# EAGLE library part DRV8262DDWR (library DRV8262DDWR)
Motor / Motion / Ignition Controllers & Drivers 70-V single or dual H-bridge motor driver with integrated current sense and regulation Source: Datasheet <https://www.arrow.com/en/products/drv8262ddwr/texas-instruments?region=nac>
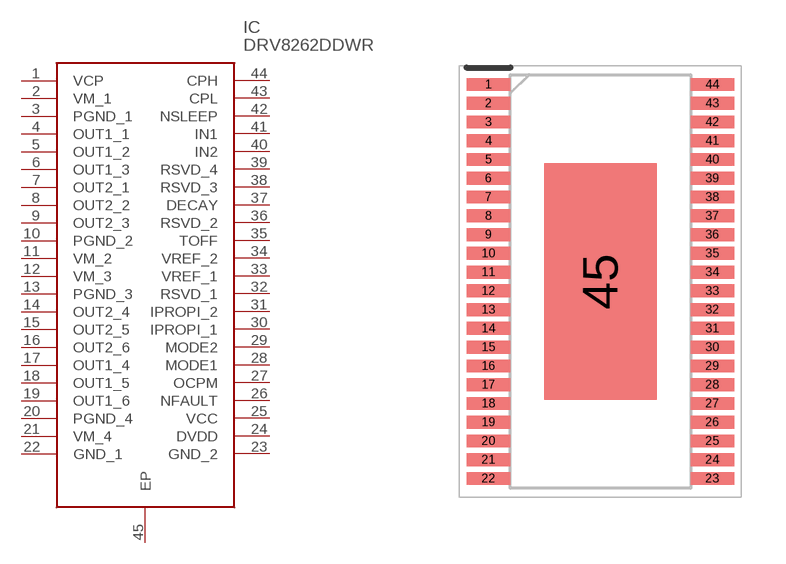
[diagram p0: symbol with the pads of SOP64P810X120-45N; footprint SOP64P810X120-45N]

Designator prefix IC

## DRV8262DDWR (Description: Motor / Motion / Ignition Controllers & Drivers 70-V single or dual H-bridge motor driver with integrated current sense and regulation; Height: 1.2mm; Manufacturer_Name: Texas Instruments; Manufacturer_Part_Number: DRV8262DDWR; Mouser_Part_Number: 595-DRV8262DDWR; Mouser_Price-Stock: https://www.mouser.co.uk/ProductDetail/Texas-Instruments/DRV8262DDWR?qs=1Kr7Jg1SGW8MeFim1i6uiA%3D%3D)  [SOP64P810X120-45N]
1  VCP
2  VM_1
3  PGND_1
4  OUT1_1
5  OUT1_2
6  OUT1_3
7  OUT2_1
8  OUT2_2
9  OUT2_3
10  PGND_2
11  VM_2
12  VM_3
13  PGND_3
14  OUT2_4
15  OUT2_5
16  OUT2_6
17  OUT1_4
18  OUT1_5
19  OUT1_6
20  PGND_4
21  VM_4
22  GND_1
23  GND_2
24  DVDD
25  VCC
26  NFAULT
27  OCPM
28  MODE1
29  MODE2
30  IPROPI_1
31  IPROPI_2
32  RSVD_1
33  VREF_1
34  VREF_2
35  TOFF
36  RSVD_2
37  DECAY
38  RSVD_3
39  RSVD_4
40  IN2
41  IN1
42  NSLEEP
43  CPL
44  CPH
45  EP

## Footprint SOP64P810X120-45N (pad centres in mm)
DRV8262DDWRaa
smd 1.475 x 0.435: 1 -3.788,6.668; 2 -3.788,6.032; 3 -3.788,5.398; 4 -3.788,4.762; 5 -3.788,4.128; 6 -3.788,3.492; 7 -3.788,2.858; 8 -3.788,2.222; 9 -3.788,1.588; 10 -3.788,0.952; 11 -3.788,0.318; 12 -3.788,-0.318; 13 -3.788,-0.952; 14 -3.788,-1.588; 15 -3.788,-2.222; 16 -3.788,-2.858; 17 -3.788,-3.492; 18 -3.788,-4.128; 19 -3.788,-4.762; 20 -3.788,-5.398; 21 -3.788,-6.032; 22 -3.788,-6.668; 23 3.788,-6.668; 24 3.788,-6.032; 25 3.788,-5.398; 26 3.788,-4.762; 27 3.788,-4.128; 28 3.788,-3.492; 29 3.788,-2.858; 30 3.788,-2.222; 31 3.788,-1.588; 32 3.788,-0.952; 33 3.788,-0.318; 34 3.788,0.318; 35 3.788,0.952; 36 3.788,1.588; 37 3.788,2.222; 38 3.788,2.858; 39 3.788,3.492; 40 3.788,4.128; 41 3.788,4.762; 42 3.788,5.398; 43 3.788,6.032; 44 3.788,6.668
smd 3.8 x 8: 45 0,0